# Altium schematic symbol library cny70.SCHLIB: 2 symbols
Pins are listed as number, name and electrical type; pins without a type are passive.

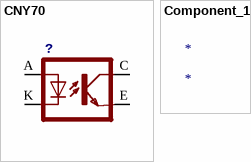
[diagram p0: symbols CNY70 to Component_1]

## CNY70
designator ?
footprint 4
pins: A, C COL, E EMI, K C

## Component_1
designator *